# EAGLE library part SI5338 (library df4iah_osc)
SI5338 I2C-PROGRAMMABLE ANY-FREQUENCY, ANY-OUTPUT QUAD CLOCK GENERATOR
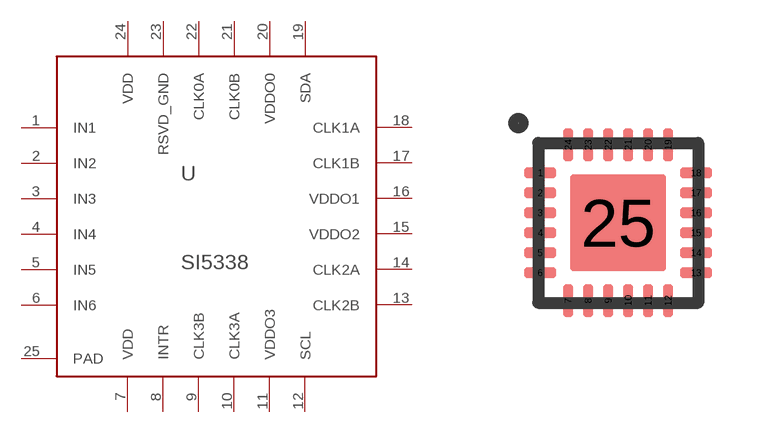
[diagram p3: symbol with the pads of QFN24_P0MM5_CTRPAD; footprint QFN24_P0MM5_CTRPAD]

Designator prefix U

## SI5338  [QFN24_P0MM5_CTRPAD]
1  IN1  in
2  IN2  in
3  IN3  in
4  IN4  in
5  IN5  in
6  IN6  in
7  VDD  pwr
8  INTR  out
9  CLK3B  hiz
10  CLK3A  hiz
11  VDDO3  pwr
12  SCL  in
13  CLK2B  hiz
14  CLK2A  hiz
15  VDDO2  pwr
16  VDDO1  pwr
17  CLK1B  hiz
18  CLK1A  hiz
19  SDA
20  VDDO0  pwr
21  CLK0B  hiz
22  CLK0A  hiz
23  RSVD_GND  pas
24  VDD  pwr
25  PAD  pwr

## Footprint QFN24_P0MM5_CTRPAD (pad centres in mm)
QFN24 - pitch 0.5 mm
smd 0.8 x 0.25: 1 -1.95,1.25; 2 -1.95,0.75; 3 -1.95,0.25; 4 -1.95,-0.25; 5 -1.95,-0.75; 6 -1.95,-1.25; 13 1.95,-1.25; 14 1.95,-0.75; 15 1.95,-0.25; 16 1.95,0.25; 17 1.95,0.75; 18 1.95,1.25
smd 0.25 x 0.8: 7 -1.25,-1.95; 8 -0.75,-1.95; 9 -0.25,-1.95; 10 0.25,-1.95; 11 0.75,-1.95; 12 1.25,-1.95; 19 1.25,1.95; 20 0.75,1.95; 21 0.25,1.95; 22 -0.25,1.95; 23 -0.75,1.95; 24 -1.25,1.95
smd 2.4 x 2.4: 25 0,0